# EAGLE library part FABC30 (library con-vg)
Female Connector C/3, 30 Solder DIN EN 60 603-02 Source: www.erni.com .. 254891.pdf
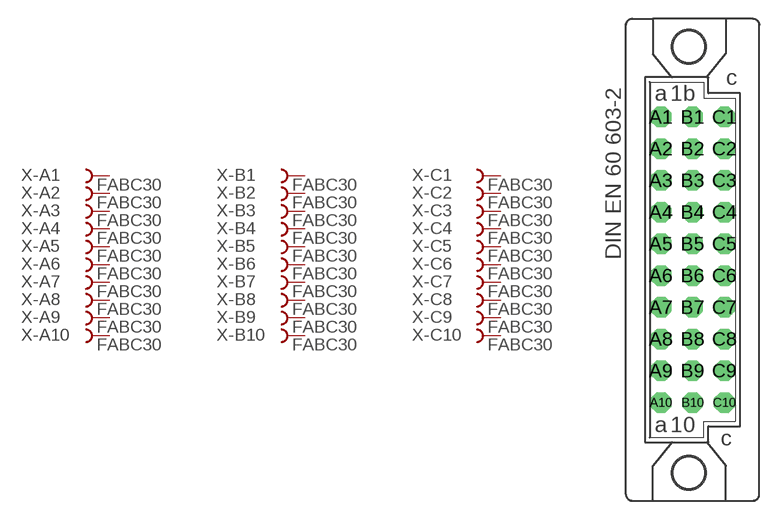
[diagram p112: symbol with the pads of FABC30; footprint FABC30]

Designator prefix X; gates -A1=F -A2=F -A3=F -A4=F -A5=F -A6=F -A7=F -A8=F -A9=F -A10=F -B1=F -B2=F -B3=F -B4=F -B5=F -B6=F -B7=F -B8=F -B9=F -B10=F -C1=F -C2=F -C3=F -C4=F -C5=F -C6=F -C7=F -C8=F -C9=F -C10=F

## FABC30  [FABC30]
A1  -A1:B  pas
A2  -A2:B  pas
A3  -A3:B  pas
A4  -A4:B  pas
A5  -A5:B  pas
A6  -A6:B  pas
A7  -A7:B  pas
A8  -A8:B  pas
A9  -A9:B  pas
A10  -A10:B  pas
B1  -B1:B  pas
B2  -B2:B  pas
B3  -B3:B  pas
B4  -B4:B  pas
B5  -B5:B  pas
B6  -B6:B  pas
B7  -B7:B  pas
B8  -B8:B  pas
B9  -B9:B  pas
B10  -B10:B  pas
C1  -C1:B  pas
C2  -C2:B  pas
C3  -C3:B  pas
C4  -C4:B  pas
C5  -C5:B  pas
C6  -C6:B  pas
C7  -C7:B  pas
C8  -C8:B  pas
C9  -C9:B  pas
C10  -C10:B  pas

## Footprint FABC30 (pad centres in mm)
Female Connector C/3, 30 Solder DIN EN 60 603-02 Source: www.erni.com .. 254891.pdf
drill 1.1 pad 1.6 octagon: A1 -2.54,11.43; A2 -2.54,8.89; A3 -2.54,6.35; A4 -2.54,3.81; A5 -2.54,1.27; A6 -2.54,-1.27; A7 -2.54,-3.81; A8 -2.54,-6.35; A9 -2.54,-8.89; A10 -2.54,-11.43; B1 0,11.43; B2 0,8.89; B3 0,6.35; B4 0,3.81; B5 0,1.27; B6 0,-1.27; B7 0,-3.81; B8 0,-6.35; B9 0,-8.89; B10 0,-11.43; C1 2.54,11.43; C2 2.54,8.89; C3 2.54,6.35; C4 2.54,3.81; C5 2.54,1.27; C6 2.54,-1.27; C7 2.54,-3.81; C8 2.54,-6.35; C9 2.54,-8.89; C10 2.54,-11.43
hole 2.794 at -0.305,17.069
hole 2.794 at -0.305,-17.069